# EAGLE library part G2RL-2 (library Relay)
CONTACT TYPE : DPDT COIL RATING : 5 to 48 VDC Datasheet <https://omronfs.omron.com/en_US/ecb/products/pdf/en-g2rl.pdf>
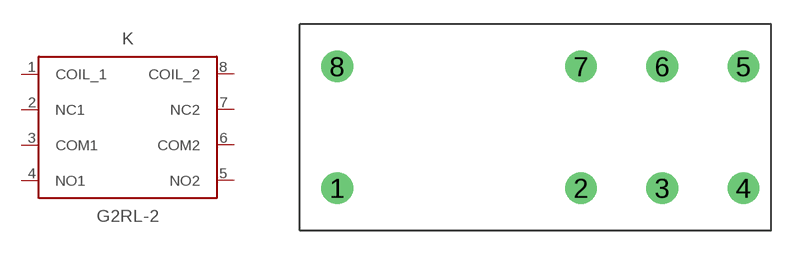
[diagram p1: symbol with the pads of G2RL-2; footprint G2RL-2]

Designator prefix K

## G2RL-2 (CATEGORY: RELAY; MANUFACTURER: OMRON; OPERATING_TEMP: 40°C to 85°C; PART_STATUS: ACTIVE; ROHS_COMPLIANCE: ROHS COMPLIANT; SERIES: G2RL; SUB-CATEGORY: Power Relay; TYPE: DPDT; VALUE: G2RL), G2RL-2-ASI (CATEGORY: RELAY; MANUFACTURER: OMRON; OPERATING_TEMP: 40°C to 85°C; PART_STATUS: ACTIVE; ROHS_COMPLIANCE: ROHS COMPLIANT; SERIES: G2RL; SUB-CATEGORY: Power Relay; TYPE: DPDT; VALUE: G2RL), G2RL-2-HA (CATEGORY: RELAY; MANUFACTURER: OMRON; OPERATING_TEMP: 40°C to 85°C; PART_STATUS: ACTIVE; ROHS_COMPLIANCE: ROHS COMPLIANT; SERIES: G2RL; SUB-CATEGORY: Power Relay; TYPE: DPDT; VALUE: G2RL), G2RL-24 (CATEGORY: RELAY; MANUFACTURER: OMRON; OPERATING_TEMP: 40°C to 85°C; PART_STATUS: ACTIVE; ROHS_COMPLIANCE: ROHS COMPLIANT; SERIES: G2RL; SUB-CATEGORY: Power Relay; TYPE: DPDT; VALUE: G2RL)  [G2RL-2]
1  COIL_1
2  NC1
3  COM1
4  NO1
5  NO2
6  COM2
7  NC2
8  COIL_2

## Footprint G2RL-2 (pad centres in mm)
drill 1.3: 1 0,0; 2 15,0; 3 20,0; 4 25,0; 5 25,7.5; 6 20,7.5; 7 15,7.5; 8 0,7.5